# Altium footprint library CH340N.PcbLib: 1 footprints
Each footprint in its own frame and in the unit in brackets; x right, y up, seen from the top. Pads: shape width x height; smd on the part's side, far side on the other; paste and mask are expansions set on the pad; w line width, h text height; cw(c..) or ccw(c..) is an arc to the next point about the centre after c.
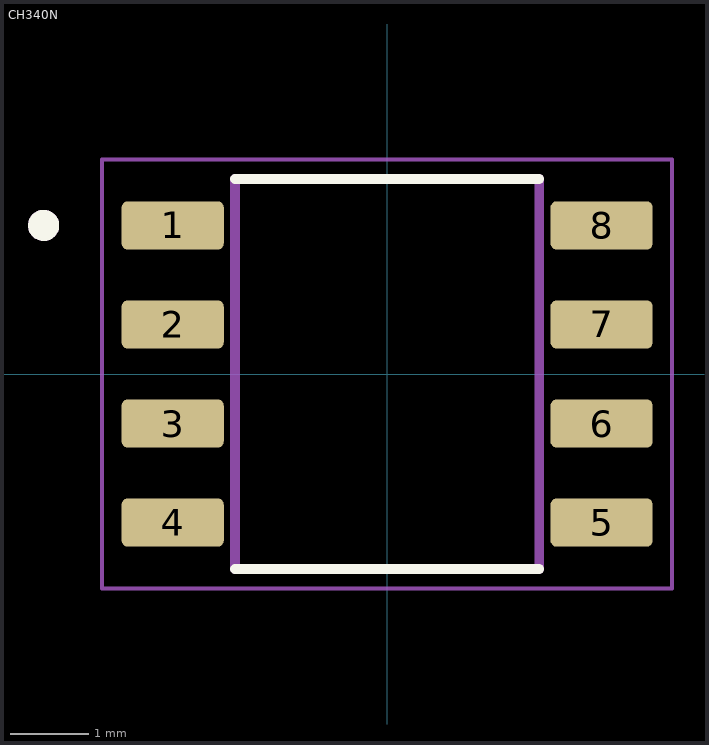
[diagram p0: the footprint, top view; thin cyan lines are the x and y axes]

## CH340N [mm]
height 1.6
pads (8):
  rrect25% 1.31x0.62 smd: 1(-2.75,1.905) 2(-2.75,0.635) 3(-2.75,-0.635) 4(-2.75,-1.905) 5(2.75,-1.905) 6(2.75,-0.635) 7(2.75,0.635) 8(2.75,1.905)
Top Overlay:
  circle w0.2: c-4.405,1.905 r0.1
  lines w0.127: -1.95,-2.5 1.95,-2.5 ; -1.95,2.5 1.95,2.5
Assembly Top:
  circle w0.2: c-4.405,1.905 r0.1
  lines w0.127: -1.95,-2.5 -1.95,2.5 1.95,2.5 1.95,-2.5 -1.95,-2.5
Courtyard Top:
  lines w0.05: -3.655,-2.75 -3.655,2.75 3.655,2.75 3.655,-2.75 -3.655,-2.75
3D body "step_temp.STEP": height 1.6, standoff 0, extent -3,-2.5 3,2.5